# Altium footprint library LX1-Power.PcbLib: 7 footprints
Each footprint in its own frame and in the unit in brackets; x right, y up, seen from the top. Pads: shape width x height; smd on the part's side, far side on the other; paste and mask are expansions set on the pad; w line width, h text height; cw(c..) or ccw(c..) is an arc to the next point about the centre after c.
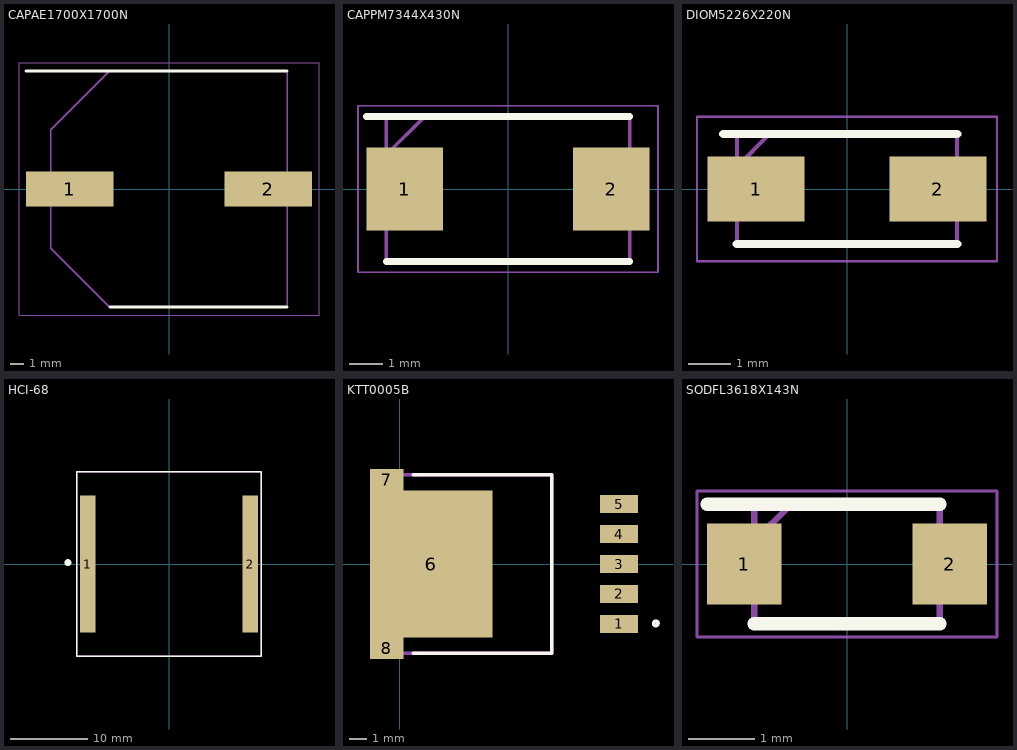
[diagram p0: the footprints below, top view; thin cyan lines are the x and y axes]

## CAPAE1700X1700N [mm]
pads (2):
  rect 6.3x2.5 smd: 1(-7.15,0) 2(7.15,0)
Top Overlay:
  lines w0.2: -10.3,8.5 8.5,8.5 ; -4.25,-8.5 8.5,-8.5
Mechanical 13:
  lines w0.1: -8.5,-4.25 -4.25,-8.5 8.5,-8.5 8.5,8.5 -4.25,8.5 -8.5,4.25 -8.5,-4.25
Mechanical 15:
  lines w0.05: -10.8,-9.1 -10.8,9.1 10.8,9.1 10.8,-9.1 -10.8,-9.1
3D body "EEE-FK1H471AM.stp": height 17, standoff 0, extent -9.5,-8.6 9.5,8.6

## CAPPM7344X430N [mm]
pads (2):
  rect 2.3x2.5 smd: 1(-3.1,0) 2(3.1,0)
Top Overlay:
  lines w0.2: -4.25,2.175 3.65,2.175 ; -3.65,-2.175 3.65,-2.175
Mechanical 13:
  lines w0.1: -3.65,1.025 -2.5,2.175 ; -3.65,-2.175 -3.65,2.175 3.65,2.175 3.65,-2.175 -3.65,-2.175
Mechanical 15:
  lines w0.05: -4.5,-2.5 -4.5,2.5 4.5,2.5 4.5,-2.5 -4.5,-2.5
3D body "TAJE227K016RNJ.stp": height 4.3, standoff 0, extent -3.65,-2.175 3.65,2.175

## DIOM5226X220N [mm]
pads (2):
  rect 2.3x1.55 smd: 1(-2.15,0) 2(2.15,0)
Top Overlay:
  lines w0.2: -2.925,1.302 2.605,1.302 ; -2.605,-1.302 2.605,-1.302
Mechanical 13:
  lines w0.1: -2.605,0.528 -1.83,1.302 ; -2.605,-1.302 -2.605,1.302 2.605,1.302 2.605,-1.302 -2.605,-1.302
Mechanical 15:
  lines w0.05: -3.55,-1.71 -3.55,1.71 3.55,1.71 3.55,-1.71 -3.55,-1.71
3D body "NRVTSA4100ET3G.stp": height 2.2, standoff 0, extent -2.605,-1.302 2.605,1.302

## HCI-68 [mm]
pads (2):
  rect 2.03x17.78 smd: 1(-10.54,0) 2(10.54,0)
Top Overlay:
  circle w0.5: c-13.096,0.183 r0.194
  lines w0.2: -11.935,-11.935 -11.935,11.935 11.935,11.935 11.935,-11.935 -11.935,-11.935
Mechanical 13:
  lines w0.2: -11.935,-11.935 11.935,-11.935 11.935,11.935 -11.935,11.935 -11.935,-11.935

## KTT0005B [mm]
pads (8):
  rect 2.16x1.02 smd: 1(12.461,-3.4) 2(12.461,-1.7) 3(12.461,0) 4(12.461,1.7) 5(12.461,3.4)
  rect 6.99x8.33 smd: 6(1.786,0)
  rect 1.91x1.235 smd: 7(-0.754,4.782) 8(-0.754,-4.782)
Top Overlay:
  circle w0.2: c14.551,-3.375 r0.126
  lines w0.2: 0.756,-5.08 8.64,-5.08 8.64,5.08 0.756,5.08
Mechanical 13:
  lines w0.2: 0,-5.08 8.64,-5.08 8.64,5.08 0,5.08 0,-5.08

## PCBComponent_1 [mm]

## SODFL3618X143N [mm]
pads (2):
  rect 1.12x1.22 smd: 1(-1.55,0) 2(1.55,0)
Top Overlay:
  lines w0.2: -2.11,0.9 1.4,0.9 ; -1.4,-0.9 1.4,-0.9
Mechanical 13:
  lines w0.1: -1.4,0.34 -0.84,0.9 ; -1.4,-0.9 -1.4,0.9 1.4,0.9 1.4,-0.9 -1.4,-0.9
Mechanical 15:
  lines w0.05: -2.26,-1.1 -2.26,1.1 2.26,1.1 2.26,-1.1 -2.26,-1.1
3D body "SS34FA.stp": height 1.43, standoff 0, extent -1.8,-0.9 1.8,0.9